# EAGLE library part ATMEGA88-M32 (library atmega88)
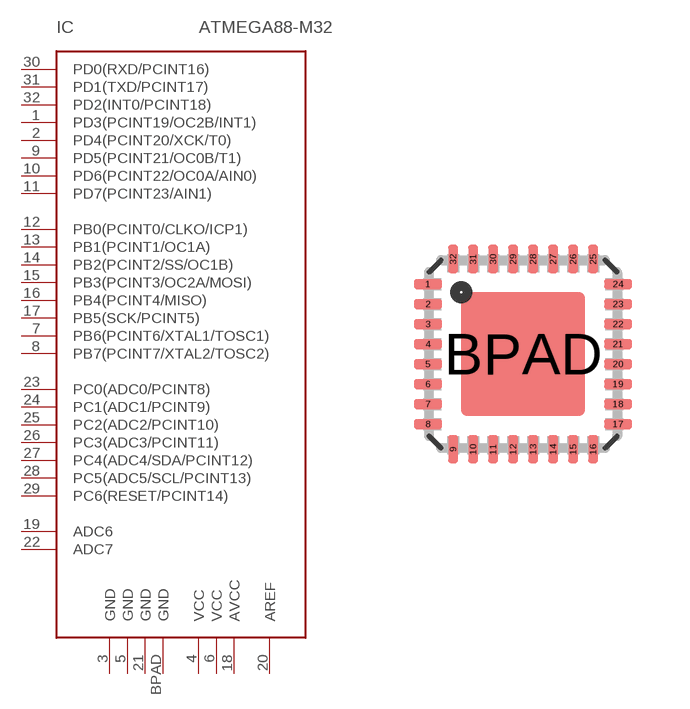
[diagram p1: symbol with the pads of MLF32; footprint MLF32]

Designator prefix IC

## ATMEGA88-M32  [MLF32]
1  PD3(PCINT19/OC2B/INT1)
2  PD4(PCINT20/XCK/T0)
3  GND  pwr
4  VCC  pwr
5  GND  pwr
6  VCC  pwr
7  PB6(PCINT6/XTAL1/TOSC1)
8  PB7(PCINT7/XTAL2/TOSC2)
9  PD5(PCINT21/OC0B/T1)
10  PD6(PCINT22/OC0A/AIN0)
11  PD7(PCINT23/AIN1)
12  PB0(PCINT0/CLKO/ICP1)
13  PB1(PCINT1/OC1A)
14  PB2(PCINT2/SS/OC1B)
15  PB3(PCINT3/OC2A/MOSI)
16  PB4(PCINT4/MISO)
17  PB5(SCK/PCINT5)
18  AVCC  pwr
19  ADC6
20  AREF  pas
21  GND  pwr
22  ADC7
23  PC0(ADC0/PCINT8)
24  PC1(ADC1/PCINT9)
25  PC2(ADC2/PCINT10)
26  PC3(ADC3/PCINT11)
27  PC4(ADC4/SDA/PCINT12)
28  PC5(ADC5/SCL/PCINT13)
29  PC6(RESET/PCINT14)
30  PD0(RXD/PCINT16)
31  PD1(TXD/PCINT17)
32  PD2(INT0/PCINT18)
BPAD  GND  pwr

## Footprint MLF32 (pad centres in mm)
smd 0.7 x 0.24: 1 -2.375,1.75; 2 -2.375,1.25; 3 -2.375,0.75; 4 -2.375,0.25; 5 -2.375,-0.25; 6 -2.375,-0.75; 7 -2.375,-1.25; 8 -2.375,-1.75; 17 2.375,-1.75; 18 2.375,-1.25; 19 2.375,-0.75; 20 2.375,-0.25; 21 2.375,0.25; 22 2.375,0.75; 23 2.375,1.25; 24 2.375,1.75
smd 0.24 x 0.7: 9 -1.75,-2.375; 10 -1.25,-2.375; 11 -0.75,-2.375; 12 -0.25,-2.375; 13 0.25,-2.375; 14 0.75,-2.375; 15 1.25,-2.375; 16 1.75,-2.375; 25 1.75,2.375; 26 1.25,2.375; 27 0.75,2.375; 28 0.25,2.375; 29 -0.25,2.375; 30 -0.75,2.375; 31 -1.25,2.375; 32 -1.75,2.375
smd 3.1 x 3.1: BPAD 0,0